# Altium footprint library LED.PcbLib: 3 footprints
Each footprint in its own frame and in the unit in brackets; x right, y up, seen from the top. Pads: shape width x height; smd on the part's side, far side on the other; paste and mask are expansions set on the pad; w line width, h text height; cw(c..) or ccw(c..) is an arc to the next point about the centre after c.
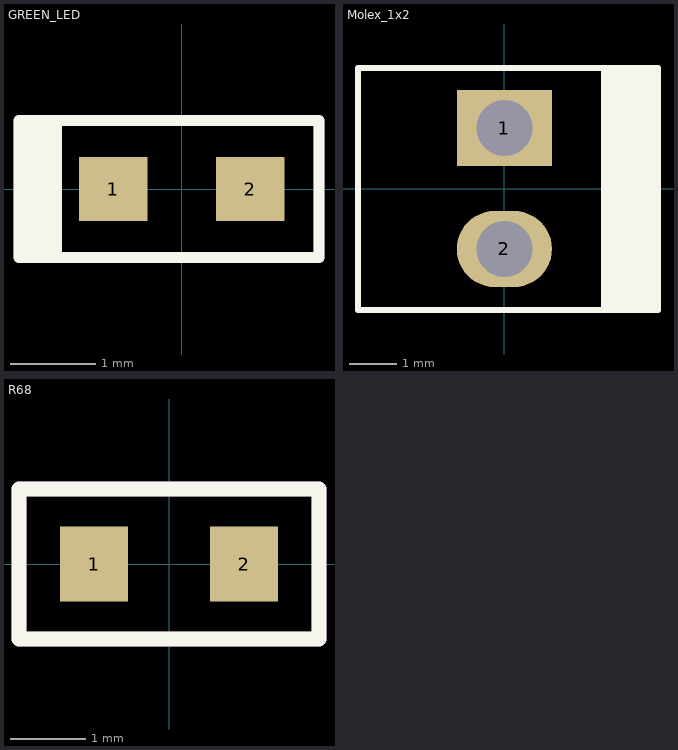
[diagram p0: the footprints below, top view; thin cyan lines are the x and y axes]

## GREEN_LED [mm]
pads (2):
  rect 0.8x0.75 smd: 1(-0.8,0) 2(0.8,0)
Top Overlay:
  rectangle: -1.9,-0.8 -1.4,0.8
  lines w0.127: -1.9,-0.8 1.6,-0.8 1.6,0.8 -1.9,0.8 -1.9,-0.8
Mechanical 29:
  rectangle: -1.9,-0.8 -1.4,0.8
  lines w0.127: -1.9,-0.8 1.6,-0.8 ; -1.9,-0.8 -1.9,0.8 ; -1.9,-0.8 1.6,-0.8 ; -1.9,-0.8 -1.9,0.8 ; -1.9,0.8 1.6,0.8 ; -1.9,0.8 1.6,0.8 ; 1.6,-0.8 1.6,0.8 ; 1.6,-0.8 1.6,0.8
  text ".Designator" at -1.075,-0.69 h0.25
3D body "732-12017-1-ND_LED.STEP": height 0.41, standoff 0.01, extent -0.801,-0.4 0.799,0.4

## Molex_1x2 [mm]
pads (2):
  rect 2x1.6 hole 1.17: 1(0,1.27)
  oval 2x1.6 hole 1.17: 2(0,-1.27)
Top Overlay:
  rectangle: 2.025,-2.55 3.225,2.49
  lines w0.127: -3.075,-2.55 3.225,-2.55 3.225,2.53 -3.075,2.53 -3.075,-2.55
Mechanical 29:
  rectangle: 2.025,-2.55 3.225,2.49
  lines w0.127: -3.075,-2.55 -3.075,2.53 3.225,2.53 3.225,-2.55 -3.075,-2.55
  text ".Designator" at -2.849,-2.32 h0.51
3D body "WM2744-ND_MOLEX_Step.STEP": height 10.68, standoff -3.54, extent -3.1,-2.54 3.25,2.54

## R68 [mm]
pads (2):
  rect 0.9x1 smd: 1(-1,0) 2(1,0)
Top Overlay:
  lines w0.203: -2,-1 2,-1 2,1 -2,1 -2,-1
Mechanical 29:
  lines w0.203: -2,-1 2,-1 2,1 -2,1 -2,-1
  text "'.Designator'" at -1.424,-0.755 h0.51
3D body "CR060368R.stp": height 0.46, standoff 0.01, extent -0.8,-0.4 0.8,0.4